# EAGLE library part MIRRORS_LINK (library ElectricNoodleBox)
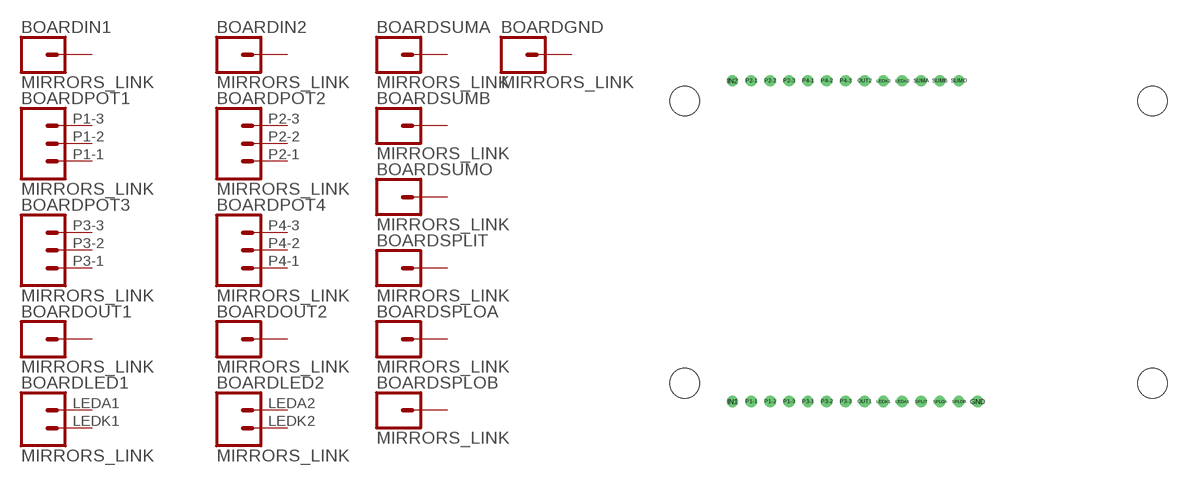
[diagram p23: symbol with the pads of MIRRORS; footprint MIRRORS]

Designator prefix BOARD; gates IN1=CONN_01 POT1=CONN_03 POT3=CONN_03 OUT1=CONN_01 LED1=CONN_02 IN2=CONN_01 POT2=CONN_03 POT4=CONN_03 OUT2=CONN_01 LED2=CONN_02 SUMA=CONN_01 SUMB=CONN_01 SUMO=CONN_01 SPLIT=CONN_01 SPLOA=CONN_01 SPLOB=CONN_01 GND=CONN_01

## MIRRORS_LINK  [MIRRORS]
GND  GND:1  pas
IN1  IN1:1  pas
IN2  IN2:1  pas
LEDA1  LED1:2  pas
LEDA2  LED2:2  pas
LEDK1  LED1:1  pas
LEDK2  LED2:1  pas
OUT1  OUT1:1  pas
OUT2  OUT2:1  pas
P1-1  POT1:1  pas
P1-2  POT1:2  pas
P1-3  POT1:3  pas
P2-1  POT2:1  pas
P2-2  POT2:2  pas
P2-3  POT2:3  pas
P3-1  POT3:1  pas
P3-2  POT3:2  pas
P3-3  POT3:3  pas
P4-1  POT4:1  pas
P4-2  POT4:2  pas
P4-3  POT4:3  pas
SPLIT  SPLIT:1  pas
SPLOA  SPLOA:1  pas
SPLOB  SPLOB:1  pas
SUMA  SUMA:1  pas
SUMB  SUMB:1  pas
SUMO  SUMO:1  pas

## Footprint MIRRORS (pad centres in mm)
drill 1.016: GND 44.45,2.54; IN1 11.43,2.54; IN2 11.43,45.72; LEDA1 34.29,2.54; LEDA2 34.29,45.72; LEDK1 31.75,2.54; LEDK2 31.75,45.72; OUT1 29.21,2.54; OUT2 29.21,45.72; P1-1 13.97,2.54; P1-2 16.51,2.54; P1-3 19.05,2.54; P2-1 13.97,45.72; P2-2 16.51,45.72; P2-3 19.05,45.72; P3-1 21.59,2.54; P3-2 24.13,2.54; P3-3 26.67,2.54; P4-1 21.59,45.72; P4-2 24.13,45.72; P4-3 26.67,45.72; SPLIT 36.83,2.54; SPLOA 39.37,2.54; SPLOB 41.91,2.54; SUMA 36.83,45.72; SUMB 39.37,45.72; SUMO 41.91,45.72
hole 4 at 5,5
hole 4 at 68,5
hole 4 at 5,43
hole 4 at 68,43